# EAGLE library part GV224 (library WFR2020)
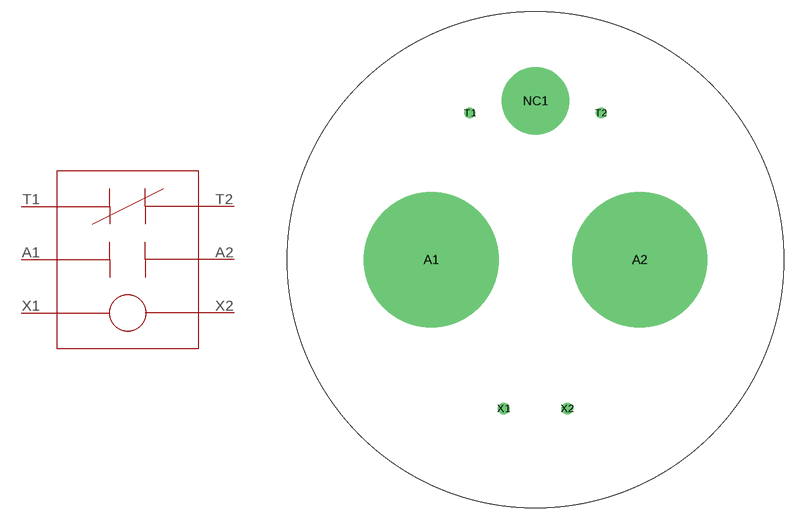
[diagram p0: symbol with the pads of GV224; footprint GV224]

Designator prefix -

## GV224  [GV224]
A1  A1
A2  A2
T1  T1
T2  T2
X1  X1
X2  X2

## Footprint GV224 (pad centres in mm)
drill 16.256: A1 -13.335,19.05; A2 13.335,19.05
drill 7.62: NC1 0,39.37
drill 0.889: T1 -8.382,37.846; T2 8.382,37.846
drill 0.889 pad 1.524: X1 -4.064,0; X2 4.064,0